# Altium footprint library Comp1.PcbLib: 10 footprints
Each footprint in its own frame and in the unit in brackets; x right, y up, seen from the top. Pads: shape width x height; smd on the part's side, far side on the other; paste and mask are expansions set on the pad; w line width, h text height; cw(c..) or ccw(c..) is an arc to the next point about the centre after c.
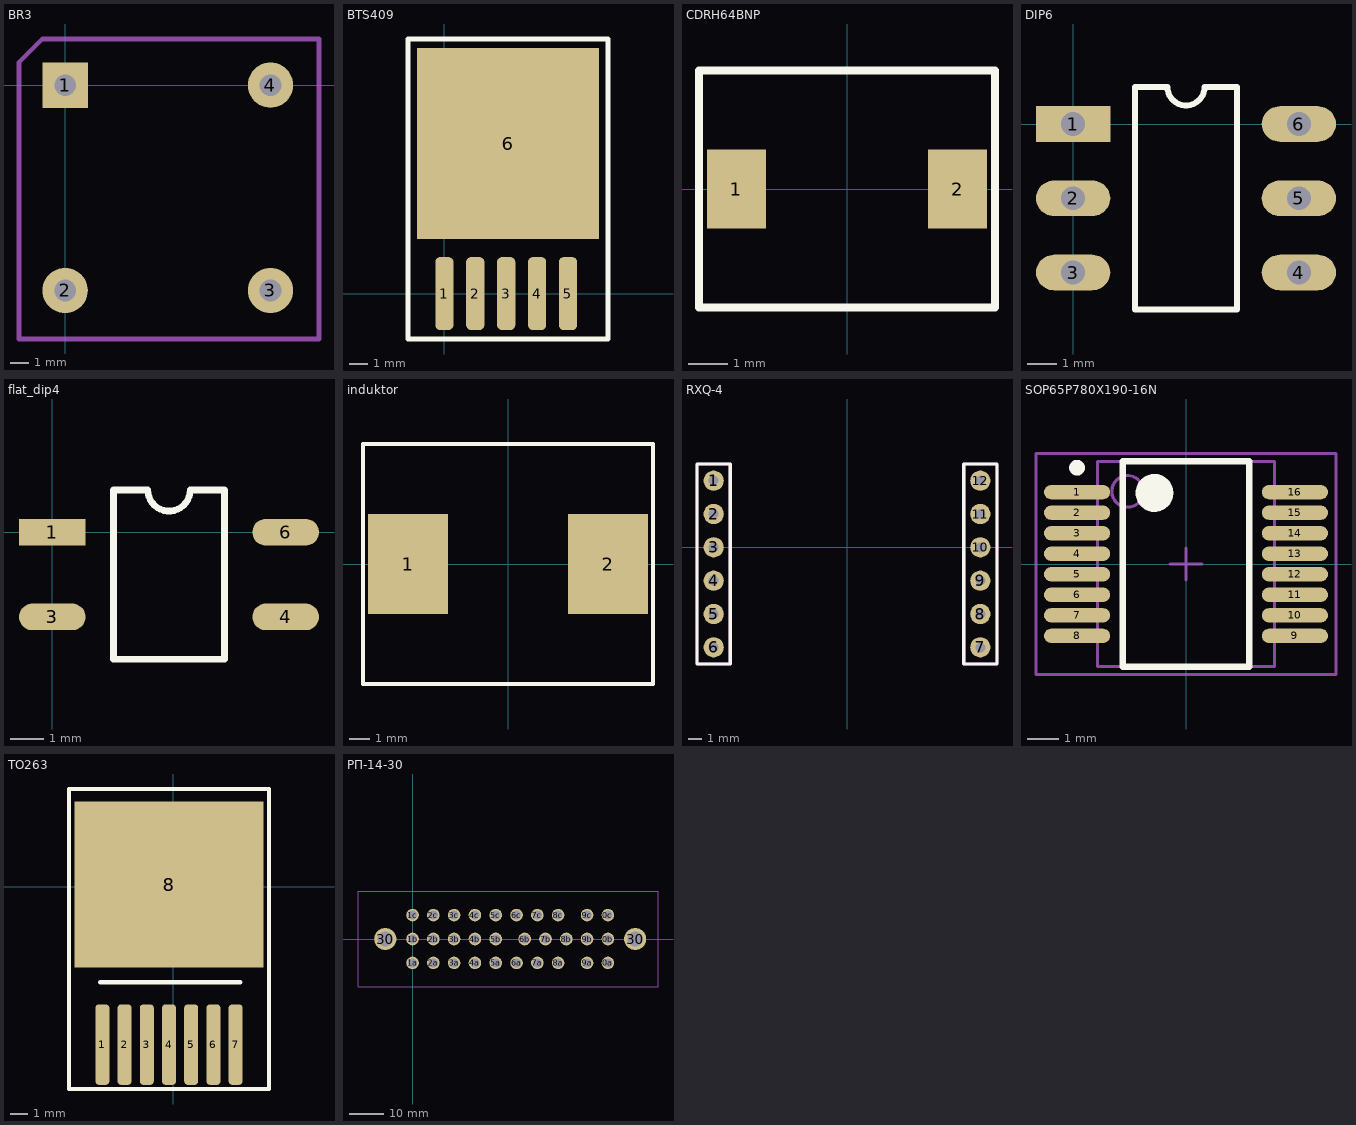
[diagram p0: the footprints below, top view; thin cyan lines are the x and y axes]

## BR3 [mm]
pads (4):
  rect 2.5x2.5 hole 1.2: 1(0,0)
  round 2.5 hole 1.2: 2(0,-11.3) 3(11.3,-11.3) 4(11.3,0)
Mechanical 1:
  lines w0.254: -2.54,-13.97 13.97,-13.97 13.97,2.54 -1.27,2.54 -2.54,1.27 -2.54,-13.97

## BTS409 [mm]
pads (6):
  rrect50% 1x4 smd: 1(0,0) 2(1.7,0) 3(3.4,0) 4(5.1,0) 5(6.8,0)
  rect 10x10.5 smd: 6(3.5,8.25)
Top Overlay:
  lines w0.254: -2,-2.5 9,-2.5 9,14 -2,14 -2,-2.5

## CDRH64BNP [mm]
pads (2):
  rect 1.5x2 smd: 1(-2.8,0) 2(2.8,0)
Top Overlay:
  lines w0.2: -3.75,-3 -3.75,1.65 -3.75,3 3.75,3 3.75,-3 -3.75,-3
3D body: height 5, standoff 0, extent -3.85,-3.1 3.85,3.1

## DIP6 [mm]
pads (6):
  rect 2.5x1.2 hole 0.8: 1(0,0)
  oval 2.5x1.2 hole 0.8: 2(0,-2.5) 3(0,-5) 4(7.6,-5) 5(7.6,-2.5) 6(7.6,0)
Top Overlay:
  lines w0.2: 2.085,-6.25 5.515,-6.25 5.515,1.25 4.425,1.25 cw(c3.8,1.25) 3.175,1.25 2.085,1.25 2.085,-6.25

## flat_dip4 [mm]
pads (4):
  rect 2x0.8 smd: 1(0,0)
  oval 2x0.8 smd: 3(0,-2.54) 4(7,-2.54) 6(7,0)
Top Overlay:
  lines w0.2: 1.835,-3.81 1.835,1.27 2.865,1.27 ccw(c3.5,1.27) 4.135,1.27 5.165,1.27 5.165,-3.81 1.835,-3.81

## induktor [mm]
pads (2):
  rect 4x5 smd: 1(-5,0) 2(5,0)
Top Overlay:
  lines w0.2: -7.25,-6 7.25,-6 7.25,6 -7.25,6 -7.25,2.52 -7.25,-6
3D body: height 5, standoff 0, extent -7.249,-5.999 7.249,5.999

## RXQ-4 [mil]
pads (12):
  round 60 hole 30: 1(-393.7,196.85) 2(-393.7,98.43) 3(-393.7,0) 4(-393.7,-98.43) 5(-393.7,-196.85) 6(-393.7,-295.28) 7(393.7,-295.28) 8(393.7,-196.85) 9(393.7,-98.43) 10(393.7,0) 11(393.7,98.43) 12(393.7,196.85)
Top Overlay:
  lines w10: -442.91,-344.49 -344.49,-344.49 -344.49,246.06 -442.91,246.06 -442.91,-344.49 ; 344.49,-344.49 442.91,-344.49 442.91,246.06 344.49,246.06 344.49,-334.65 344.49,-344.49
Mechanical 1:
  lines w10: -442.91,-344.49 -442.91,246.06 -344.49,246.06 -344.49,-344.49 -442.91,-344.49 ; 344.49,-344.49 344.49,246.06 442.91,246.06 442.91,-344.49 344.49,-344.49

## SOP65P780X190-16N [mm] "SOP, 16-Leads, Body 6,5x5,6mm (max), Pitch 0,65mm, IPC Medium Density"
height 1.9
pads (16):
  oval 2.1x0.45 smd: 1(-3.45,2.275) 2(-3.45,1.625) 3(-3.45,0.975) 4(-3.45,0.325) 5(-3.45,-0.325) 6(-3.45,-0.975) 7(-3.45,-1.625) 8(-3.45,-2.275) 9(3.45,-2.275) 10(3.45,-1.625) 11(3.45,-0.975) 12(3.45,-0.325) 13(3.45,0.325) 14(3.45,0.975) 15(3.45,1.625) 16(3.45,2.275)
Top Overlay:
  circle w0.6: c-1,2.25 r0.3
  circle w0.25: c-3.45,3.05 r0.125
  lines w0.2: -2,-3.25 2,-3.25 2,3.25 -2,3.25 -2,-3.25
Mechanical 13:
  circle w0.1: c-1.85,2.3 r0.5
  lines w0.1: -2.8,-3.25 2.8,-3.25 2.8,3.25 -2.8,3.25 -2.8,-3.25
Mechanical 15:
  lines w0.1: -0.5,0 0.5,0 ; 0,-0.5 0,0.5 ; -4.75,-3.5 4.75,-3.5 4.75,3.5 -4.75,3.5 -4.75,-3.5
3D body: height 1.9, standoff 0.05, extent -2.8,-3.25 2.8,3.25

## TO263 [mm]
pads (8):
  rrect50% 0.8x4.6 smd: 1(-4.064,-9.017) 2(-2.794,-9.017) 3(-1.524,-9.017) 4(-0.254,-9.017) 5(1.016,-9.017) 6(2.286,-9.017) 7(3.556,-9.017)
  rect 10.8x9.5 smd: 8(-0.254,0.127)
Top Overlay:
  lines w0.254: -4.191,-5.461 3.809,-5.461 ; -5.969,-11.557 5.461,-11.557 5.461,5.588 -5.969,5.588 -5.969,-11.557

## РП-14-30 [mm]
pads (32):
  round 3.7 hole 2.7: 0a(57.3,-7) 0b(57.3,0) 0c(57.3,7) 1a(0,-7) 1b(0,0) 1c(0,7) 2a(6.1,-7) 2b(6.1,0) 2c(6.1,7) 3a(12.2,-7) 3b(12.2,0) 3c(12.2,7) 4a(18.3,-7) 4b(18.3,0) 4c(18.3,7) 5a(24.4,-7) 5b(24.4,0) 5c(24.4,7) 6a(30.5,-7) 6b(32.9,0) 6c(30.5,7) 7a(36.6,-7) 7b(39,0) 7c(36.6,7) 8a(42.7,-7) 8b(45.1,0) 8c(42.7,7) 9a(51.2,-7) 9b(51.2,0) 9c(51.2,7)
  round 6.5 hole 4.5: 30(-8,0) 30(65.3,0)
Mechanical 1:
  lines w0.254: -16,-14 72,-14 72,14 -16,14 -16,-14